# Altium footprint library Xtals.PcbLib: 98 footprints (part 6 of 7)
Each footprint in its own frame and in the unit in brackets; x right, y up, seen from the top. Pads: shape width x height; smd on the part's side, far side on the other; paste and mask are expansions set on the pad; w line width, h text height; cw(c..) or ccw(c..) is an arc to the next point about the centre after c.
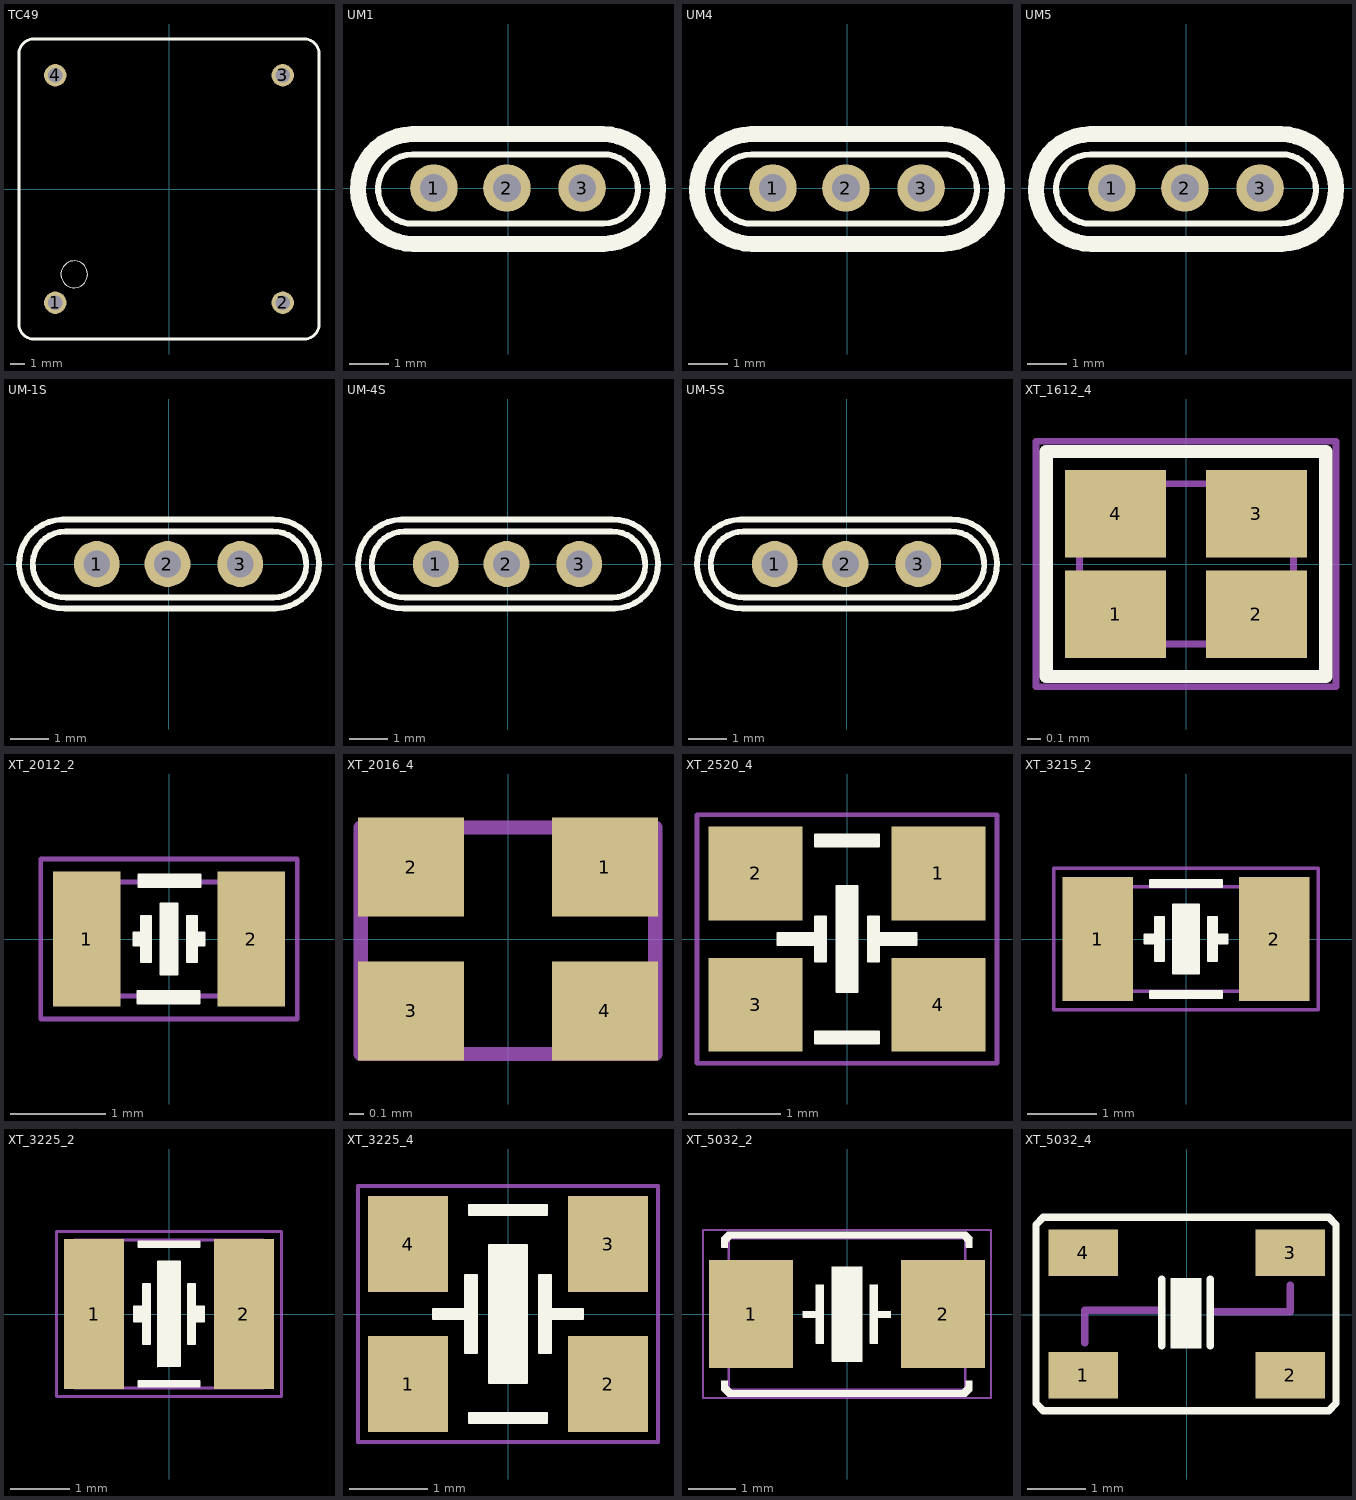
[diagram p5: the footprints below, top view; thin cyan lines are the x and y axes]

## TC49 [mm]
pads (4):
  round 1.5 hole 1: 1(-7.62,-7.62) 2(7.62,-7.62) 3(7.62,7.62) 4(-7.62,7.62)
Top Overlay:
  circle w0: c-6.35,-5.715 r0.898
  lines w0.203: -10.05,-9.05 ccw(c-9.05,-9.05) -9.05,-10.05 9.05,-10.05 ccw(c9.05,-9.05) 10.05,-9.05 10.05,9.05 ccw(c9.05,9.05) 9.05,10.05 -9.05,10.05 ccw(c-9.05,9.05) -10.05,9.05 -10.05,-9.05

## UM1 [mil]
pads (3):
  round 47.24 hole 27.56: 1(-73.82,0) 2(-1.06,0) 3(73.82,0)
Top Overlay:
  lines w6: -95.32,33.58 ccw(c-94.83,-0.98) -94.33,-35.55 95.32,-35.55 ccw(c94.83,-0.98) 94.33,33.58 -95.32,33.58
  lines w16: -95.32,53.58 ccw(c-94.83,-0.98) -94.33,-55.55 95.32,-55.55 ccw(c94.83,-0.98) 94.33,53.58 -95.32,53.58

## UM4 [mil]
pads (3):
  round 47.24 hole 27.56: 1(-73.82,0) 2(-1.06,0) 3(73.82,0)
Top Overlay:
  lines w6: -95.32,33.58 ccw(c-94.83,-0.98) -94.33,-35.55 95.32,-35.55 ccw(c94.83,-0.98) 94.33,33.58 -95.32,33.58
  lines w16: -95.32,53.58 ccw(c-94.83,-0.98) -94.33,-55.55 95.32,-55.55 ccw(c94.83,-0.98) 94.33,53.58 -95.32,53.58

## UM5 [mil]
pads (3):
  round 47.24 hole 27.56: 1(-73.82,0) 2(-1.06,0) 3(73.82,0)
Top Overlay:
  lines w6: -95.32,33.58 ccw(c-94.83,-0.98) -94.33,-35.55 95.32,-35.55 ccw(c94.83,-0.98) 94.33,33.58 -95.32,33.58
  lines w16: -95.32,53.58 ccw(c-94.83,-0.98) -94.33,-55.55 95.32,-55.55 ccw(c94.83,-0.98) 94.33,53.58 -95.32,53.58

## UM-1S [mil]
pads (3):
  round 47.24 hole 27.56: 1(-73.82,0) 2(-1.06,0) 3(73.82,0)
Top Overlay:
  lines w6: -109.09,45.71 ccw(c-108.11,0) -107.13,-45.71 110.08,-45.71 ccw(c109.09,0) 108.11,45.71 -109.09,45.71 ; -106.14,33.58 ccw(c-105.65,-0.49) -105.16,-34.57 108.11,-34.57 ccw(c107.62,-0.49) 107.13,33.58 -106.14,33.58

## UM-4S [mil]
pads (3):
  round 47.24 hole 27.56: 1(-73.82,0) 2(-1.06,0) 3(73.82,0)
Top Overlay:
  lines w6: -109.09,45.71 ccw(c-108.11,0) -107.13,-45.71 110.08,-45.71 ccw(c109.09,0) 108.11,45.71 -109.09,45.71 ; -106.14,33.58 ccw(c-105.65,-0.49) -105.16,-34.57 108.11,-34.57 ccw(c107.62,-0.49) 107.13,33.58 -106.14,33.58

## UM-5S [mil]
pads (3):
  round 47.24 hole 27.56: 1(-73.82,0) 2(-1.06,0) 3(73.82,0)
Top Overlay:
  lines w6: -109.09,45.71 ccw(c-108.11,0) -107.13,-45.71 110.08,-45.71 ccw(c109.09,0) 108.11,45.71 -109.09,45.71 ; -106.14,33.58 ccw(c-105.65,-0.49) -105.16,-34.57 108.11,-34.57 ccw(c107.62,-0.49) 107.13,33.58 -106.14,33.58

## XT_1612_4 [mm]
pads (4):
  rect 0.75x0.65 smd mask+0: 1(-0.525,-0.375) 2(0.525,-0.375) 3(0.525,0.375) 4(-0.525,0.375)
Top Overlay:
  lines w0.1: -1.041,-0.838 1.041,-0.838 1.041,0.838 0.051,0.838 -1.041,0.838 -1.041,-0.838
Mechanical 1:
  lines w0.05: -0.794,-0.597 -0.794,0.597 0,0.597 0.8,0.597 0.8,-0.597 -0.794,-0.597
Mechanical 11:
  lines w0.05: -1.118,-0.914 -1.118,0.914 -0.025,0.914 1.118,0.914 1.118,-0.914 -1.118,-0.914
3D body: height 0.15, standoff 0, extent -0.8,-0.597 0.8,0.597
3D body: height 0.25, standoff 0, extent -0.711,-0.533 0.711,0.533
3D body: height 0.3, standoff 0, extent -0.66,-0.483 0.66,0.483

## XT_2012_2 [mil]
height 25.59
pads (2):
  rect 28x56 smd: 1(-34,0) 2(34,0)
Top Overlay:
  region: -12.5,26.5 13,26.5 13,21.5 -12.5,21.5
  region: -11.5,9.5 -7.5,9.5 -7.5,-9.5 -11.5,-9.5 -11.5,-2.5 -14.5,-2.5 -14.5,2.5 -11.5,2.5
  region: -3.5,14.5 3.5,14.5 3.5,-14.5 -3.5,-14.5
  region: 11.5,-9.5 7.5,-9.5 7.5,9.5 11.5,9.5 11.5,2.5 14.5,2.5 14.5,-2.5 11.5,-2.5
  region: 12.5,-26.5 -13,-26.5 -13,-21.5 12.5,-21.5
  lines w1: -14.5,-2.5 -11.5,-2.5 -11.5,-9.5 -7.5,-9.5 -7.5,9.5 -11.5,9.5 -11.5,2.5 -14.5,2.5 -14.5,-2.5 ; -13,-26.5 -13,-21.5 12.5,-21.5 12.5,-26.5 -13,-26.5 ; -12.5,21.5 -12.5,26.5 13,26.5 13,21.5 -12.5,21.5 ; -3.5,-14.5 -3.5,14.5 3.5,14.5 3.5,-14.5 -3.5,-14.5 ; 7.5,-9.5 11.5,-9.5 11.5,-2.5 14.5,-2.5 14.5,2.5 11.5,2.5 11.5,9.5 7.5,9.5 7.5,-9.5
Mechanical 13:
  lines w2: -39.37,-23.62 -39.37,23.62 39.37,23.62 39.37,-23.62 -39.37,-23.62
Mechanical 14:
  lines w2: -53,-33 -53,33 53,33 53,-33 -53,-33
3D body "User Library-Osc KC2520.STEP": height 31.1, standoff 0, extent -49.21,-39.36 49.22,39.37

## XT_2016_4 [mil]
height 29.53
pads (4):
  rect 29.53x27.56 smd: 1(27,20) 2(-27,20) 3(-27,-20) 4(27,-20)
Mechanical 16:
  lines w3.94: -41,-32 -41,31 41,31 41,-32 -41,-32
3D body "User Library-NT2016SA-END4910A-48MHZ Crystal (NDK).step": height 27.56, standoff -0.04, extent -39.36,-32.49 39.38,30.5

## XT_2520_4 [mil]
height 29.53
pads (4):
  rect 40x40 smd: 1(39,28) 2(-39,28) 3(-39,-28) 4(39,-28)
Top Overlay:
  region: 9,9.5 13.5,9.5 13.5,2.5 29.5,2.5 29.5,-2.5 13.5,-2.5 13.5,-9.5 9,-9.5
  region: -4.5,22.5 4.5,22.5 4.5,-22.5 -4.5,-22.5
  region: -29.5,2.5 -13.5,2.5 -13.5,9.5 -9,9.5 -9,-9.5 -13.5,-9.5 -13.5,-2.5 -29.5,-2.5
  region: -13.5,-39.5 13.5,-39.5 13.5,-44.5 -13.5,-44.5
  region: -13.5,44.5 13.5,44.5 13.5,39.5 -13.5,39.5
  lines w1: -29.5,-2.5 -29.5,2.5 -13.5,2.5 -13.5,9.5 -9,9.5 -9,-9.5 -13.5,-9.5 -13.5,-2.5 -29.5,-2.5 ; -13.5,-44.5 -13.5,-39.5 13.5,-39.5 13.5,-44.5 -13.5,-44.5 ; -13.5,39.5 13.5,39.5 13.5,44.5 -13.5,44.5 -13.5,39.5 ; -4.5,-22.5 -4.5,22.5 4.5,22.5 4.5,-22.5 -4.5,-22.5 ; 9,-9.5 13.5,-9.5 13.5,-2.5 29.5,-2.5 29.5,2.5 13.5,2.5 13.5,9.5 9,9.5 9,-9.5
Mechanical 14:
  lines w2: -64,-53 -64,53 64,53 64,-53 -64,-53
3D body "User Library-Osc KC2520.STEP": height 31.1, standoff 0, extent -49.21,-39.36 49.22,39.37

## XT_3215_2 [mil]
height 25.59
pads (2):
  rect 40x70 smd: 1(-50,0) 2(50,0)
Top Overlay:
  region: 20.5,-33.5 -20.5,-33.5 -20.5,-29.5 20.5,-29.5
  region: 12.5,12.5 17.5,12.5 17.5,2.5 23.5,2.5 23.5,-2.5 17.5,-2.5 17.5,-12.5 12.5,-12.5
  region: -12.5,-12.5 -17.5,-12.5 -17.5,-2.5 -23.5,-2.5 -23.5,2.5 -17.5,2.5 -17.5,12.5 -12.5,12.5
  region: -7.5,19.5 7.5,19.5 7.5,-19.5 -7.5,-19.5
  region: -20.5,33.5 20.5,33.5 20.5,29.5 -20.5,29.5
  lines w1: -23.5,-2.5 -23.5,2.5 -17.5,2.5 -17.5,12.5 -12.5,12.5 -12.5,-12.5 -17.5,-12.5 -17.5,-2.5 -23.5,-2.5 ; -20.5,-33.5 20.5,-33.5 20.5,-29.5 -20.5,-29.5 -20.5,-33.5 ; -20.5,29.5 -20.5,33.5 20.5,33.5 20.5,29.5 -20.5,29.5 ; -7.5,-19.5 -7.5,19.5 7.5,19.5 7.5,-19.5 -7.5,-19.5 ; 12.5,-12.5 17.5,-12.5 17.5,-2.5 23.5,-2.5 23.5,2.5 17.5,2.5 17.5,12.5 12.5,12.5 12.5,-12.5
Mechanical 13:
  lines w2: -63,-29.51 62.99,-29.51 62.99,29.53 -63,29.53 -63,-29.51
Mechanical 14:
  lines w2: -75,-40 75,-40 75,40 -75,40 -75,-40
3D body "User Library-ECX-31B.STEP": height 35.43, standoff 0, extent -63,-29.51 62.99,29.55

## XT_3225_2 [mil]
height 25.59
pads (2):
  rect 40x100 smd: 1(-50,0) 2(50,0)
Top Overlay:
  region: -20.5,48.5 20.5,48.5 20.5,44.5 -20.5,44.5
  region: -7.5,35 7.5,35 7.5,-35 -7.5,-35
  region: -12.5,-20 -17.5,-20 -17.5,-5 -23.5,-5 -23.5,5 -17.5,5 -17.5,20 -12.5,20
  region: 12.5,20 17.5,20 17.5,5 23.5,5 23.5,-5 17.5,-5 17.5,-20 12.5,-20
  region: 20.5,-48.5 -20.5,-48.5 -20.5,-44.5 20.5,-44.5
  lines w1: -23.5,-5 -23.5,5 -17.5,5 -17.5,20 -12.5,20 -12.5,-20 -17.5,-20 -17.5,-5 -23.5,-5 ; -20.5,-48.5 -20.5,-44.5 20.5,-44.5 20.5,-48.5 -20.5,-48.5 ; -20.5,44.5 20.5,44.5 20.5,48.5 -20.5,48.5 -20.5,44.5 ; -7.5,-35 7.5,-35 7.5,35 -7.5,35 -7.5,-35 ; 12.5,-20 12.5,20 17.5,20 17.5,5 23.5,5 23.5,-5 17.5,-5 17.5,-20 12.5,-20
Mechanical 13:
  lines w2: -63,-49.21 62.99,-49.21 62.99,49.21 -63,49.21 -63,-49.21
Mechanical 14:
  lines w2: -75,-55 75,-55 75,55 -75,55 -75,-55
3D body "User Library-SG310.STEP": height 41.34, standoff 0, extent -62.98,-49.21 63,49.21

## XT_3225_4 [mil]
height 47.24
pads (4):
  rect 40x48 smd: 1(-50,-35) 2(50,-35) 3(50,35) 4(-50,35)
Top Overlay:
  region: 19.5,-54.5 -19.5,-54.5 -19.5,-49.5 19.5,-49.5
  region: 21.5,-19.5 15.5,-19.5 15.5,19.5 21.5,19.5 21.5,2.5 37.5,2.5 37.5,-2.5 21.5,-2.5
  region: -21.5,19.5 -15.5,19.5 -15.5,-19.5 -21.5,-19.5 -21.5,-2.5 -37.5,-2.5 -37.5,2.5 -21.5,2.5
  region: -9.5,34.5 9.5,34.5 9.5,-34.5 -9.5,-34.5
  region: -19.5,54.5 19.5,54.5 19.5,49.5 -19.5,49.5
  lines w1: -37.5,-2.5 -37.5,2.5 -21.5,2.5 -21.5,19.5 -15.5,19.5 -15.5,-19.5 -21.5,-19.5 -21.5,-2.5 -37.5,-2.5 ; -19.5,-54.5 -19.5,-49.5 19.5,-49.5 19.5,-54.5 -19.5,-54.5 ; -19.5,49.5 -19.5,54.5 19.5,54.5 19.5,49.5 -19.5,49.5 ; -9.5,-34.5 9.5,-34.5 9.5,34.5 -9.5,34.5 -9.5,-34.5 ; 15.5,-19.5 15.5,19.5 21.5,19.5 21.5,2.5 37.5,2.5 37.5,-2.5 21.5,-2.5 21.5,-19.5 15.5,-19.5
Mechanical 14:
  lines w2: -75,-64 -75,64 75,64 75,-64 -75,-64
3D body "User Library-SG310.STEP": height 41.34, standoff 0, extent -62.98,-49.21 63,49.21

## XT_5032_2 [mil]
height 47.24
pads (2):
  rect 70x90 smd: 1(-80,0) 2(80,0)
Top Overlay:
  region: 19.5,-24.5 25.5,-24.5 25.5,-2.5 36.5,-2.5 36.5,2.5 25.5,2.5 25.5,24.5 19.5,24.5
  region: -12.5,39.5 12.5,39.5 12.5,-39.5 -12.5,-39.5
  region: -19.5,24.5 -25.5,24.5 -25.5,2.5 -36.5,2.5 -36.5,-2.5 -25.5,-2.5 -25.5,-24.5 -19.5,-24.5
  region: -104.5,55.5 -99.5,55.5 -99.5,60 -96,63.5 96,63.5 99.5,60 99.5,55.5 104.5,55.5 104.5,63.5 99.5,68.5 -99.5,68.5 -104.5,63.5
  region: 104.5,-55.5 99.5,-55.5 99.5,-60 96,-63.5 -96,-63.5 -99.5,-60 -99.5,-55.5 -104.5,-55.5 -104.5,-63.5 -99.5,-68.5 99.5,-68.5 104.5,-63.5
  lines w1: -104.5,-63.5 -104.5,-55.5 -99.5,-55.5 -99.5,-60 -96,-63.5 96,-63.5 99.5,-60 99.5,-55.5 104.5,-55.5 104.5,-63.5 99.5,-68.5 -99.5,-68.5 -104.5,-63.5 ; -104.5,55.5 -104.5,63.5 -99.5,68.5 99.5,68.5 104.5,63.5 104.5,55.5 99.5,55.5 99.5,60 96,63.5 -96,63.5 -99.5,60 -99.5,55.5 -104.5,55.5 ; -36.5,-2.5 -36.5,2.5 -25.5,2.5 -25.5,24.5 -19.5,24.5 -19.5,-24.5 -25.5,-24.5 -25.5,-2.5 -36.5,-2.5 ; -12.5,-39.5 -12.5,39.5 12.5,39.5 12.5,-39.5 -12.5,-39.5 ; 19.5,-24.5 25.5,-24.5 25.5,-2.5 36.5,-2.5 36.5,2.5 25.5,2.5 25.5,24.5 19.5,24.5 19.5,-24.5
Mechanical 13:
  lines w2: -98.43,-63 98.42,-63 98.43,-63 98.43,62.99 -98.43,62.99 -98.43,-63
Mechanical 14:
  lines w2: -120,-70 -120,70 120,70 120,-70 -120,-70
3D body "xtal5032.step": height 53.15, standoff 0, extent -98.43,-64.98 98.43,61

## XT_5032_4 [mil]
height 47.24
pads (4):
  rect 47.24x31.5 smd: 1(-70,-41) 2(70,-41) 3(70,42) 4(-70,42)
Top Overlay:
  rectangle: -11,-23 10,25
  lines w5: -17,-21 -17,24 ; 16,-21 16,24 ; -102,-60 -97,-65 96,-65 101,-60 101,61 96,66 -97,66 -102,61 -102,-60
Mechanical 16:
  lines w5: -69,-19 -69,3 -17,3 ; 18,2 70,2 70,20
3D body "User Library-CRYSTALSMD5X32.STEP": height 39.37, standoff 0, extent -98.43,-62.98 98.43,63